# Altium integrated library BMS_V3.IntLib: 25 symbols
Pins are listed as number, name and electrical type; pins without a type are passive.

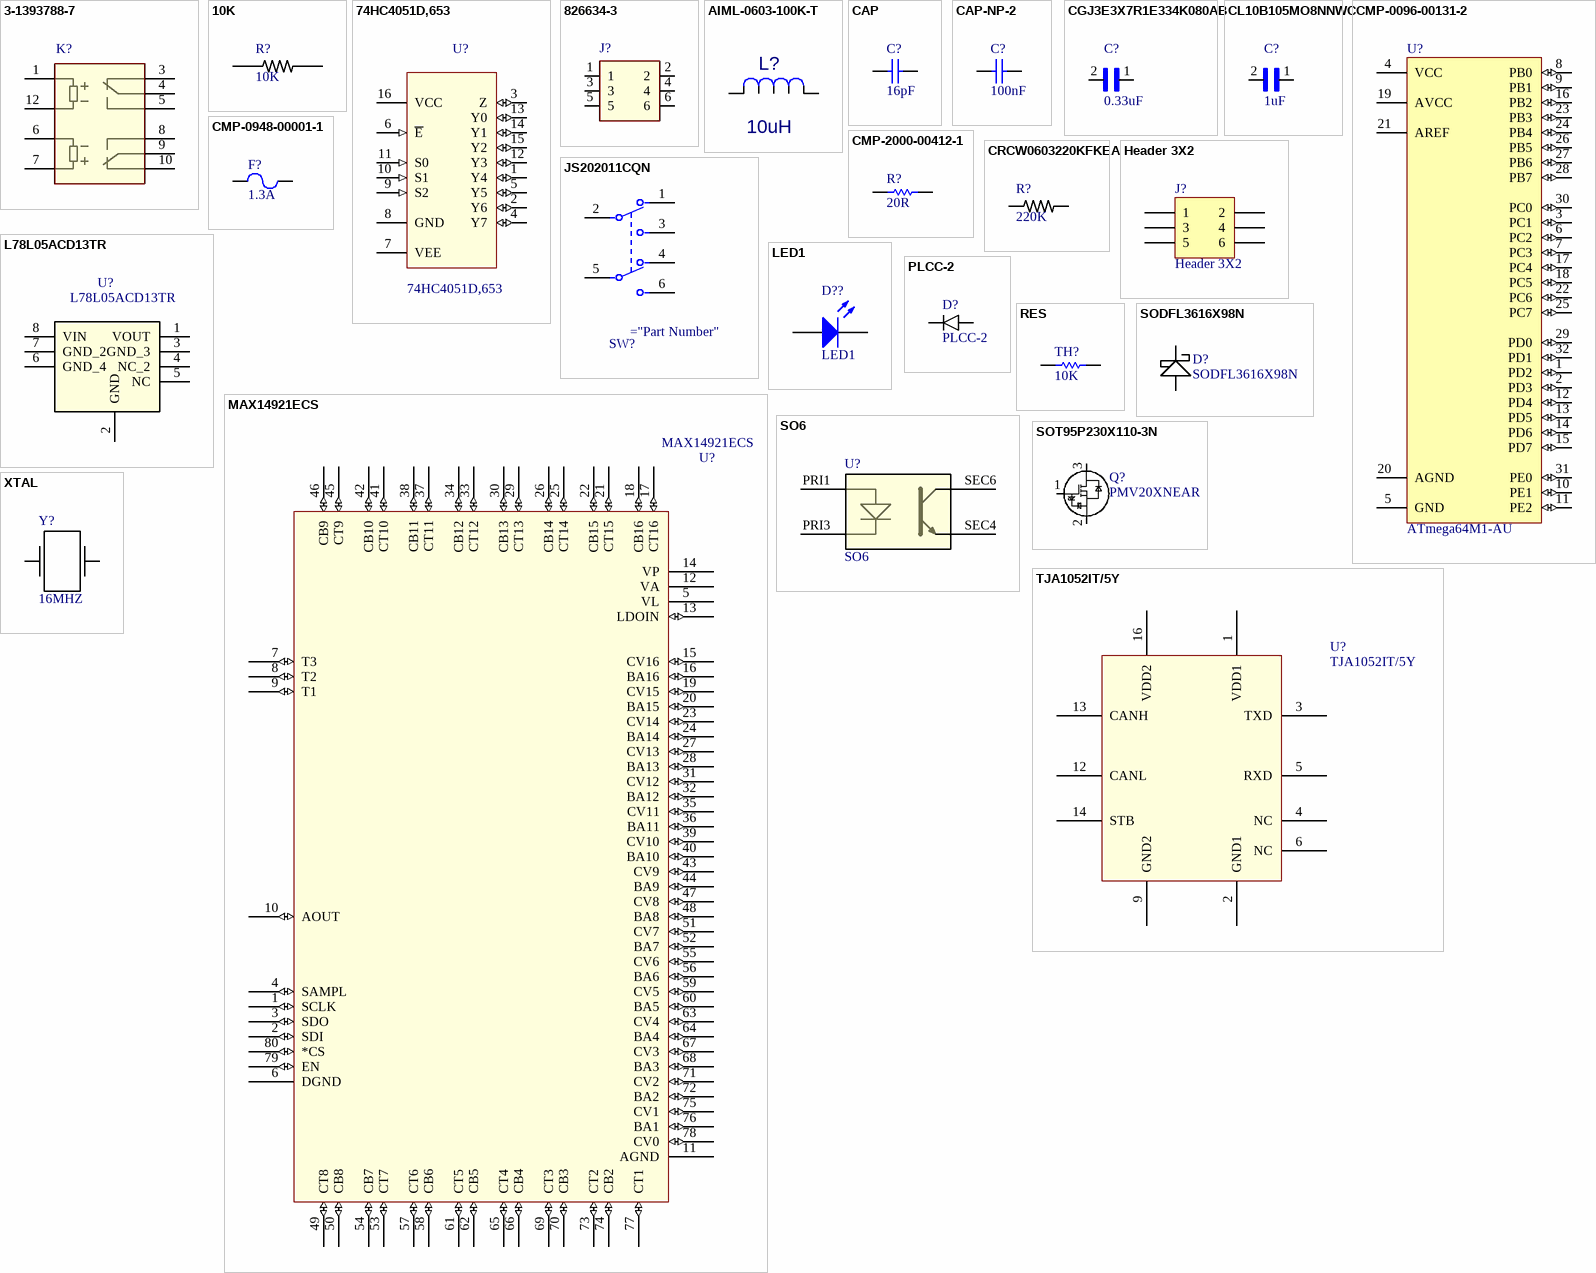
[diagram p0: symbols 3-1393788-7 to XTAL]

## 3-1393788-7
designator K?, comment TX2SA-24V-TH  (value not drawn)
Electromechanical Relay 24VDC 4.114KOhm 2A DPDT __ 14.5mm 7.2mm 9.8mm__ THT Signal Relay Automotive Medical; MF: TE Connectivity; MP: 3-1393788-7; Availability: Unavailable; SnapEDA_Link: https://www.snapeda.com/parts/3-1393788-7/TE%20Connectivity/view-part/?ref=snap; EU_RoHS_Compliance: Compliant; Price: None; TE_purchase_URL: https://www.te.com/usa-en/product-3-1393788-7.html?te_bu=Cor&te_type=disp&te_campaign=seda_glo_cor-seda-global-disp-prtnr-fy19-seda-model-bom-cta_sma-317_1&elqCampaignId=32493; Package: None; Value: *
footprint TE_3-1393788-7
pins: 1, 3, 4, 5, 6, 7, 8, 9, 10, 12

## 10K
designator R?
/ Res Thick Film 0603 10K Ohm 5% 0.25W_1/4W_ Â±200ppm/C Molded SMD Automotive T/R /; MP: ESR03EZPJ103; MF: Rohm; Package: 0603 Rohm; SnapEDA_Link: https://www.snapeda.com/parts/ESR03EZPJ103/Rohm/view-part/?ref=snap; Price: None; Availability: Unavailable; Value: *
footprint RESC1608X55N (Footprint not found)
pins: ?1 2, ?2 1

## 74HC4051D,653
designator U?
74HC Series 10V 8-Channel Analog Multiplexer/Demultiplexer - SOIC-16; MF: Nexperia USA; Package: SO-16 Nexperia; Price: None; SnapEDA_Link: https://www.snapeda.com/parts/74HC4051D%2C653/Nexperia%20USA%20Inc./view-part/?ref=snap; Availability: Unavailable; MP: 74HC4051D,653; Value: *
footprint PCBComponent_1
footprint SOIC127P600X175-16N
pins: 1 Y4 (io), 2 Y6 (io), 3 Z (io), 4 Y7 (io), 5 Y5 (io), 6 ~{E} (in), 7 VEE (power), 8 GND, 9 S2 (in), 10 S1 (in), 11 S0 (in), 12 Y3 (io), 13 Y0 (io), 14 Y1 (io), 15 Y2 (io), 16 VCC (power)

## 826634-3
designator J?, comment ISP Header  (value not drawn)
Conn Unshrouded Header HDR 6 POS 2.54mm Solder RA Thru-Hole Automotive Carton; MF: TE Connectivity; MP: 826634-3; Availability: Unavailable; SnapEDA_Link: https://www.snapeda.com/parts/826634-3/TE%20Connectivity%20AMP%20Connectors/view-part/?ref=snap; EU_RoHS_Compliance: Compliant; Price: None; TE_purchase_URL: https://www.te.com/usa-en/product-826634-3.html?te_bu=Cor&te_type=disp&te_campaign=seda_glo_cor-seda-global-disp-prtnr-fy19-seda-model-bom-cta_sma-317_1&elqCampaignId=32493; Package: None; Value: *
footprint TE_826634-3
pins: 1, 2, 3, 4, 5, 6

## AIML-0603-100K-T
designator L?, comment 10uH
Manufacturer_Part_Number: AIML-0603-100K-T; C: Copyright (C) 2015 Accelerated Designs. All rights reserved; Vendor: Abracon; Built_By: EMA_UL_Team; Value: AIML-0603-100K-T
footprint AIML-0603
footprint *0603-NO
pins: 1, 2

## CAP
designator C?, comment 16pF
Manufacturer: AVX Interconnect / Elco; Part Number: 06035A160JAT2A
footprint CAPC1608X90X35ML15T15 (Chip Capacitor, 2-Leads, Body 1.60x0.81mm, IPC Low Density)
footprint CAPC1608X90X35LL15T15 (Chip Capacitor, 2-Leads, Body 1.60x0.81mm, IPC High Density)
footprint CAPC1608X90X35NL15T15 (Chip Capacitor, 2-Leads, Body 1.60x0.81mm, IPC Medium Density)
pins: 1, 2
1 alternate drawing of the same symbol

## CAP-NP-2
designator C?, comment 100nF
Chip Capacitor, 100 nF, +/- 10%, 50 V, 0603 (1608 Metric); Capacitor Type: Ceramic; Voltage Rating: 50V; Capacitance: 100nF; Pins: 2; RoHS Compliant: True; Tolerance: 10%; Min Operating Temperature: -55°C; Mounting Technology: SM; Case/Package: 0603; Max Operating Temperature: 125°C
footprint CAPC1608X90X40ML10T20 (Chip Capacitor, 2-Leads, Body 1.70x0.90mm, IPC Low Density)
footprint CAPC1608X90X40NL10T20 (Chip Capacitor, 2-Leads, Body 1.70x0.90mm, IPC Medium Density)
footprint CAPC1608X90X40LL10T20 (Chip Capacitor, 2-Leads, Body 1.70x0.90mm, IPC High Density)
pins: 1, 2

## CGJ3E3X7R1E334K080AB
designator C?, comment 0.33uF
/ Cap Ceramic 0.33uF 25V X7R 10% SMD 0603 125Â°C Punched Paper T/R /; MP: CGJ3E3X7R1E334K080AB; MF: TDK; Digi-Key_Part_Number: 445-13347-1-ND; SnapEDA_Link: https://www.snapeda.com/parts/CGJ3E3X7R1E334K080AB/TDK-Lambda%20Americas%20Inc/view-part/?ref=snap; Package: 0603 TDK; Digi-Key_Purchase_URL: https://www.digikey.com.au/product-detail/en/tdk-corporation/CGJ3E3X7R1E334K080AB/445-13347-1-ND/3955013?utm_source=snapeda&utm_medium=aggregator&utm_campaign=symbol; Value: *
footprint *CAPC1608X95
pins: 1, 2

## CL10B105MO8NNWC
designator C?, comment 1uF
/ CL10 Series 0603 16 V 1 uF Â±20% Tolerance X7R Multilayer Ceramic Capacitor /; MP: CL10B105MO8NNWC; MF: Samsung Electro-Mechanics; Digi-Key_Purchase_URL: https://www.digikey.com.au/product-detail/en/samsung-electro-mechanics/CL10B105MO8NNWC/1276-6524-1-ND/5961383?utm_source=snapeda&utm_medium=aggregator&utm_campaign=symbol; SnapEDA_Link: https://www.snapeda.com/parts/CL10B105MO8NNWC/Samsung%20Electro-Mechanics/view-part/?ref=snap; Package: 0603 Samsung; Digi-Key_Part_Number: 1276-6524-1-ND; Value: *
footprint *CAPC1608X90N
pins: 1, 2

## CMP-0096-00131-2
designator U?, comment ATmega64M1-AU
8-bit AVR Microcontroller, 2.7-5.5V, 16MHz, 64KB Flash, 2KB EEPROM, 4KB SRAM, Industrial Grade (-40° to +85°C), 32-Pin TQFP; Code_JEDEC: MS-026-ABA; PackageVersion: revC, Oct-2010; ComponentLink2Description: ATmega16M1/32M1/64M1 Datasheet; ComponentLink1Description: Manufacturer URL; DatasheetVersion: revD, Nov-2010; ComponentLink3Description: ATmega16M1/32M1/64M1 Summary; ComponentLink1URL: http://www.atmel.com/; RevisionNote: DatasheetVersion & PackageVersion updated. URLs added.; PackageReference: 32A; ComponentLink3URL: http://www.atmel.com/dyn/resources/prod_documents/8209S.pdf; PackageDescription: 32-Lead, 7x7x1.0 mm Body, 0.8mm Lead Pitch, Thin Profile Plastic Quad Flat Package (TQFP); ComponentLink2URL: http://www.atmel.com/dyn/resources/prod_documents/doc8209.pdf
footprint 32A_L (Thin QFP, 32-Leads, Body 7x7mm, Pitch 0.8mm, IPC High Density)
footprint 32A_N (Thin QFP, 32-Leads, Body 7x7mm, Pitch 0.8mm, IPC Medium Density)
footprint 32A_M (Thin QFP, 32-Leads, Body 7x7mm, Pitch 0.8mm, IPC Low Density)
pins: 1 PD2 (io), 2 PD3 (io), 3 PC1 (io), 4 VCC (power), 5 GND (power), 6 PC2 (io), 7 PC3 (io), 8 PB0 (io), 9 PB1 (io), 10 PE1 (io), 11 PE2 (io), 12 PD4 (io), 13 PD5 (io), 14 PD6 (io), 15 PD7 (io), 16 PB2 (io), 17 PC4 (io), 18 PC5 (io), 19 AVCC (power), 20 AGND (power), 21 AREF (power), 22 PC6 (io), 23 PB3 (io), 24 PB4 (io), 25 PC7 (io), 26 PB5 (io), 27 PB6 (io), 28 PB7 (io), 29 PD0 (io), 30 PC0 (io), 31 PE0 (io), 32 PD1 (io)

## CMP-0948-00001-1
designator F?, comment 1.3A
Quick Acting Fuse, 1 A, 0.21 W, -55 to 125 degC, 2-Pin Axial Leaded, Dia 5.5 mm, Body Length 15 mm, RoHS; PartNumber: 2JQ 1-R; Manufacturer: Bel Fuse; Voltage Rating: 350 V; Typical Cold Resistance: 0.112 Ohm; Maximum Power Dissipation: 0.21 W; Ampere Rating: 1 A; RoHS: TRUE; ComponentLink1Description: Manufacturer URL; ComponentLink2Description: Datasheet; ComponentLink1URL: http://www.belfuse.com/; Temp. Range: -55 to 125 degC; DatasheetVersion: May-12; PackageDescription: 2-Pin Axial Lead, Dia 5.5 mm, Body Length 15 mm; PackageReference: 2JQ-1-2; ComponentLink2URL: http://belfuse.com/pdfs/JQ.pdf; Mounting Technology: Through Hole
footprint BELF-2JQ-1-2_V2 (Axial Lead, 2-Leads, Dia 5.5mm, Body Length 15mm, Pin Spacing 5.5mm)
footprint BELF-2JQ-1-2_V1 (Axial Lead, 2-Leads, Dia 5.5mm, Body Length 15mm, Pin Spacing 20mm)
pins: 1, 2

## CMP-2000-00412-1
designator R?, comment 20R
Manufacturer: Panasonic; Part Number: ERJ-3EKF3001V
footprint RESC1608X55X30NL15T15 (Chip Resistor, 2-Leads, Body 1.60x0.80mm, IPC Medium Density)
footprint RESC1608X55X30ML15T15 (Chip Resistor, 2-Leads, Body 1.60x0.80mm, IPC Low Density)
footprint RESC1608X55X30LL15T15 (Chip Resistor, 2-Leads, Body 1.60x0.80mm, IPC High Density)
pins: 1, 2
1 alternate drawing of the same symbol

## CRCW0603220KFKEA
designator R?, comment 220K
/ Res Thick Film 0603 220K Ohm 1% 0.1W_1/10W_ Â±100ppm/C Molded SMD Automotive Paper T/R /; MP: CRCW0603220KFKEA; MF: Vishay Dale; Package: 0603 Vishay; Price: None; SnapEDA_Link: https://www.snapeda.com/parts/CRCW0603220KFKEA/Vishay%20Dale/view-part/?ref=snap; Availability: Unavailable; Value: *
footprint *0603
pins: 1, 2

## Header 3X2
designator J?
Header, 3-Pin, Dual row; LatestRevisionDate: 17-Jul-2002; LatestRevisionNote: Re-released for DXP Platform.; Publisher: Altium Limited
footprint HDR2X3 (Connector; Header; 3x2 Position)
signal-integrity model Connector
pins: 1, 2, 3, 4, 5, 6

## JS202011CQN
designator SW?  (value not drawn)
footprint C&K_JS202011CQN_0
pins: 1, 2, 3, 4, 5, 6

## L78L05ACD13TR
designator U?
L78L Series 20 V 100 mA Surface Mount Positive Voltage Regulator - SOIC-8; MF: STMicroelectronics; Package: SOIC-8 STMicroelectronics; MP: L78L05ACD13TR; SnapEDA_Link: https://www.snapeda.com/parts/L78L05ACD13TR/STMicroelectronics/view-part/?ref=snap; Price: None; Availability: Unavailable; Value: *
footprint SOIC127P600X175-8N
footprint SOIC127P600X175-8N
pins: 1 VOUT (power), 2 GND, 3 GND_3, 4 NC_2, 5 NC, 6 GND_4, 7 GND_2, 8 VIN (power)

## LED1
designator D??
Typical RED GaAs LED; Published: 8-Jun-2000; LatestRevisionDate: 08-Jul-2005; LatestRevisionNote: Mech Layer 1 removed.; PackageReference: LED-1; Publisher: Altium Limited; PackageDescription: LED; 2 Leads
footprint LED-1 (LED; 2 Leads)
simulation model LED1 (Diode)
pins: 1 A, 2 K

## MAX14921ECS
designator U?
High Accuracy 16 Cell Battery Monitoring; MP: MAX14921ECS+; MF: Maxim Integrated; SnapEDA_Link: https://www.snapeda.com/parts/MAX14921ECS%2B/Maxim%20Integrated/view-part/?ref=snap; Package: TQFP-80 Maxim Integrated; Availability: Unavailable; Price: None; Value: *
footprint *21-0072F
pins: 1 SCLK (io), 2 SDI (io), 3 SDO (io), 4 SAMPL (io), 5 VL (power), 6 DGND (power), 7 T3 (io), 8 T2 (io), 9 T1 (io), 10 AOUT (io), 11 AGND (power), 12 VA (power), 13 LDOIN (io), 14 VP (power), 15 CV16 (io), 16 BA16 (io), 17 CT16 (io), 18 CB16 (io), 19 CV15 (io), 20 BA15 (io), 21 CT15 (io), 22 CB15 (io), 23 CV14 (io), 24 BA14 (io), 25 CT14 (io), 26 CB14 (io), 27 CV13 (io), 28 BA13 (io), 29 CT13 (io), 30 CB13 (io), 31 CV12 (io), 32 BA12 (io), 33 CT12 (io), 34 CB12 (io), 35 CV11 (io), 36 BA11 (io), 37 CT11 (io), 38 CB11 (io), 39 CV10 (io), 40 BA10 (io), 41 CT10 (io), 42 CB10 (io), 43 CV9 (io), 44 BA9 (io), 45 CT9 (io), 46 CB9 (io), 47 CV8 (io), 48 BA8 (io), 49 CT8 (io), 50 CB8 (io), 51 CV7 (io), 52 BA7 (io), 53 CT7 (io), 54 CB7 (io), 55 CV6 (io), 56 BA6 (io), 57 CT6 (io), 58 CB6 (io), 59 CV5 (io), 60 BA5 (io), 61 CT5 (io), 62 CB5 (io), 63 CV4 (io), 64 BA4 (io), 65 CT4 (io), 66 CB4 (io), 67 CV3 (io), 68 BA3 (io), 69 CT3 (io), 70 CB3 (io), 71 CV2 (io), 72 BA2 (io), 73 CT2 (io), 74 CB2 (io), 75 CV1 (io), 76 BA1 (io), 77 CT1 (io), 78 CV0 (io), 79 EN (io), 80 *CS (io)

## PLCC-2
designator D?
footprint PLCC-2
pins: A, C

## RES
designator TH?, comment 10K
Part Number: NTHS0603N02N1002JE; Manufacturer: Vishay Dale
footprint RESC1608X100X25LL20T15 (Chip Resistor, 2-Leads, Body 1.60x0.80mm, IPC High Density)
footprint RESC1608X100X25ML20T15 (Chip Resistor, 2-Leads, Body 1.60x0.80mm, IPC Low Density)
footprint RESC1608X100X25NL20T15 (Chip Resistor, 2-Leads, Body 1.60x0.80mm, IPC Medium Density)
pins: 1, 2
1 alternate drawing of the same symbol

## SO6
designator U?
footprint SO6
footprint *SO6
pins: PRI1, PRI3, SEC4, SEC6

## SODFL3616X98N
designator D?
footprint Model Name (Footprint not found)
footprint SODFL3616X98N (Footprint not found)
footprint SODFL3616X98N
pins: A, C

## SOT95P230X110-3N
designator Q?, comment PMV20XNEAR
footprint SOT95P230X110-3N
footprint SOT95P230X110-3N
pins: 1, 2, 3

## TJA1052IT/5Y
designator U?
footprint SOIC127P1032X265-16N
pins: 1 VDD1, 2 GND1, 3 TXD, 4 NC, 5 RXD, 6 NC, 9 GND2, 12 CANL, 13 CANH, 14 STB, 16 VDD2

## XTAL
designator Y?, comment 16MHZ
footprint XTAL_HC49P488W45L1150T500H350
pins: 1, 2